# EAGLE library part TCAN1044AEVDRQ1 (library TCAN1044AEVDRQ1)
TCAN1044AEVDRQ1 Source: Datasheet <https://www.ti.com/general/docs/suppproductinfo.tsp?distId=10&gotoUrl=https://www.ti.com/lit/gpn/tcan1044-q1>
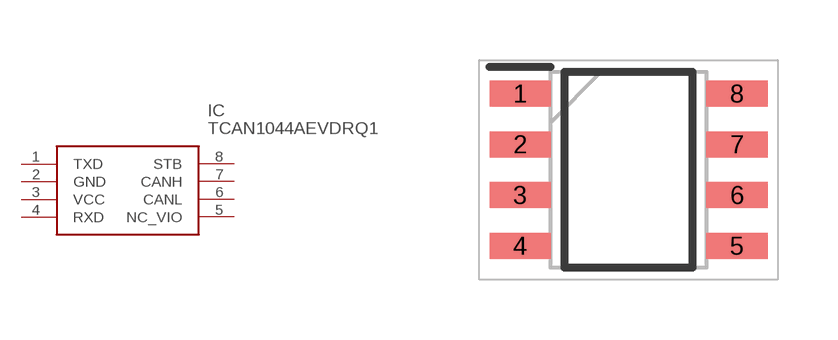
[diagram p0: symbol with the pads of SOIC127P600X175-8N; footprint SOIC127P600X175-8N]

Designator prefix IC

## TCAN1044AEVDRQ1 (Description: TCAN1044AEVDRQ1; Height: 1.75mm; Manufacturer_Name: Texas Instruments; Manufacturer_Part_Number: TCAN1044AEVDRQ1; Mouser_Part_Number: 595-TCAN1044AEVDRQ1; Mouser_Price-Stock: https://www.mouser.co.uk/ProductDetail/Texas-Instruments/TCAN1044AEVDRQ1?qs=Rp5uXu7WBW%2FghOnpfmkUbA%3D%3D)  [SOIC127P600X175-8N]
1  TXD
2  GND
3  VCC
4  RXD
5  NC_VIO
6  CANL
7  CANH
8  STB

## Footprint SOIC127P600X175-8N (pad centres in mm)
D
smd 1.528 x 0.65: 1 -2.711,1.905; 2 -2.711,0.635; 3 -2.711,-0.635; 4 -2.711,-1.905; 5 2.711,-1.905; 6 2.711,-0.635; 7 2.711,0.635; 8 2.711,1.905